# Altium footprint library SENSOR.PcbLib: 86 footprints (part 3 of 6)
Each footprint in its own frame and in the unit in brackets; x right, y up, seen from the top. Pads: shape width x height; smd on the part's side, far side on the other; paste and mask are expansions set on the pad; w line width, h text height; cw(c..) or ccw(c..) is an arc to the next point about the centre after c.
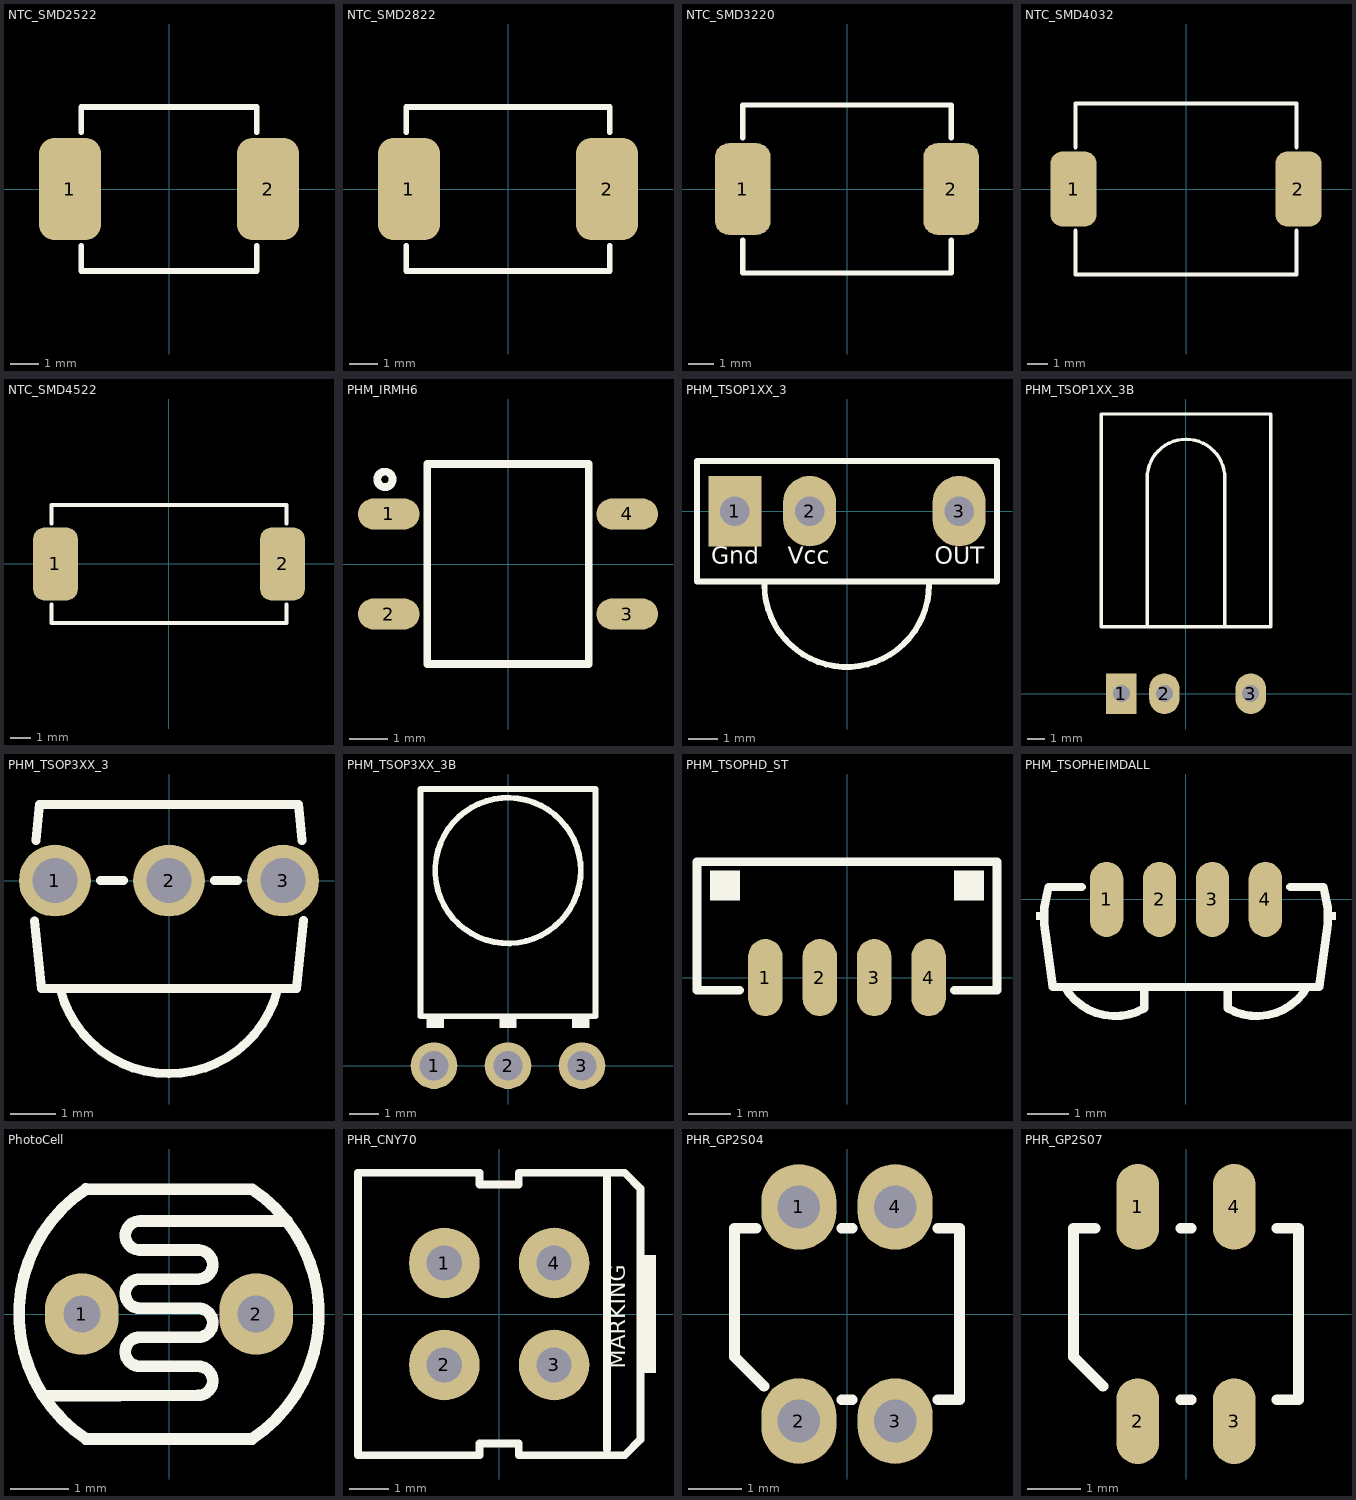
[diagram p2: the footprints below, top view; thin cyan lines are the x and y axes]

## NTC_SMD2522 [mm] "NTC, 6x5.6x2.4mm"
pads (2):
  rrect50% 2.2x3.6 smd paste-0.05 mask+0.075: 1(-3.5,0) 2(3.5,0)
Top Overlay:
  lines w0.2: -3.1,-2 -3.1,-2.9 3.1,-2.9 3.1,-2 ; -3.1,2 -3.1,2.9 3.1,2.9 3.1,2
3D body "NTC2522.step": height 2.5, standoff 0, extent -3.3,-2.8 3.3,2.8

## NTC_SMD2822 [mm] "NTC, 7x5.6x2.4mm"
pads (2):
  rrect50% 2.2x3.6 smd paste-0.05 mask+0.075: 1(-3.5,0) 2(3.5,0)
Top Overlay:
  lines w0.2: -3.6,-2 -3.6,-2.9 3.6,-2.9 3.6,-2 ; -3.6,2 -3.6,2.9 3.6,2.9 3.6,2
3D body "NTC2822.step": height 2.5, standoff 0, extent -3.9,-2.8 3.9,2.8

## NTC_SMD3220 [mm] "NTC, 8x6.4x4.0mm"
pads (2):
  rrect50% 2.2x3.6 smd paste-0.05 mask+0.075: 1(-4.1,0) 2(4.1,0)
Top Overlay:
  lines w0.2: -4.1,-2 -4.1,-3.3 4.1,-3.3 4.1,-2 ; -4.1,2 -4.1,3.3 4.1,3.3 4.1,2
3D body "NTC3220.step": height 4.1, standoff 0, extent -4.3,-3.2 4.3,3.2

## NTC_SMD4032 [mm] "NTC, 10.4x8x4.5mm"
pads (2):
  rrect50% 2.2x3.6 smd paste-0.05 mask+0.075: 1(-5.4,0) 2(5.4,0)
Top Overlay:
  lines w0.2: -5.3,-2 -5.3,-4.1 5.3,-4.1 5.3,-2 ; -5.3,2 -5.3,4.1 5.3,4.1 5.3,2
3D body "NTC4032.step": height 4.6, standoff 0, extent -5.5,-4 5.5,4

## NTC_SMD4522 [mm] "NTC, 11.4x6x2.4mm"
pads (2):
  rrect50% 2.2x3.6 smd paste-0.05 mask+0.075: 1(-5.6,0) 2(5.6,0)
Top Overlay:
  lines w0.2: -5.8,-2 -5.8,-2.9 5.8,-2.9 5.8,-2 ; -5.8,2 -5.8,2.9 5.8,2.9 5.8,2
3D body "NTC4522.step": height 2.5, standoff 0, extent -6,-3 6,3

## PHM_IRMH6 [mm] "PHOTO, Reflective Optical Sensor, IRM-H638"
pads (4):
  oval 1.6x0.8 smd: 1(-3.1,1.3) 2(-3.1,-1.3) 3(3.1,-1.3) 4(3.1,1.3)
Top Overlay:
  circle w0.2: c-3.2,2.2 r0.2
  lines w0.2: -2.1,-2.6 -2.1,2.6 2.1,2.6 2.1,-2.6 -2.1,-2.6
3D body: height 2.5, standoff 0, extent -2,-2.5 2,2.5
3D body: height 4, standoff 1, extent -1.498,-0.599 1.5,2.4

## PHM_TSOP1XX_3 [mm] "Photo Modules for PCM Remote Control Systems"
pads (3):
  rect 1.8x2.4 hole 1: 1(-3.81,0)
  oval 1.8x2.4 hole 1: 2(-1.27,0) 3(3.81,0)
Top Overlay:
  lines w0.2: -2.81,-2.5 ccw(c-0.01,-2.5) 2.79,-2.5 ; -5.1,-2.4 -5.1,1.7 5.1,1.7 5.1,-2.4 -5.1,-2.4
  text "OUT" at 2.99,-2 h1
  text "Vcc" at -2.01,-2 h1
  text "Gnd" at -4.61,-2 h1
3D body "TSOPxxxx.STEP": height 13.25, standoff -17.35, extent -5.01,-5.15 4.99,1.6

## PHM_TSOP1XX_3B [mm] "IR Sensor (TV Sensor)"
pads (3):
  rect 1.8x2.4 hole 1: 1(-3.81,0)
  oval 1.8x2.4 hole 1: 2(-1.27,0) 3(3.81,0)
Top Overlay:
  lines w0.2: -2.286,3.937 -2.286,12.7 cw(c0,12.7) 2.286,12.7 2.286,3.937 ; -5,3.937 -5,16.471 5,16.471 5,3.937 -5,3.937
3D body "TSOP1238_2009.STEP": height 5.8, standoff -2.15, extent -5,-0.229 5,16.471

## PHM_TSOP3XX_3 [mm] "HS0038B, SFH5110, TSOP322.., TSOP324.., TSOP344.., TSOP348.."
height 6.95
pads (3):
  round 1.6 / inner round 1.6 / far side oval 1.6x2.4 hole 1: 1(-2.54,0) 2(0,0) 3(2.54,0)
Top Overlay:
  lines w0.2: -2.99,-0.899 -2.84,-2.4 2.84,-2.4 2.991,-0.889 ; -2.96,0.896 -2.88,1.7 2.88,1.7 2.96,0.896 ; -2.415,-2.447 ccw(c0,-1.8) 2.415,-2.447 ; -1.524,0 -1.016,0 ; 1.016,0 1.524,0
3D body "User Library-tsop4836.step": height 10.51, standoff -20, extent -3,-4.2 3,1.6

## PHM_TSOP3XX_3B [mm] "TSOP3XX_BENDED"
height 10
pads (3):
  round 1.6 / inner round 1.6 / far side oval 1.6x2.4 hole 1: 1(-2.54,0) 2(0,0) 3(2.54,0)
Top Overlay:
  circle w0.2: c0,6.7 r2.5
  rectangle: -2.8,1.3 -2.2,1.7
  rectangle: -0.3,1.3 0.3,1.7
  region: 2.8,1.7 2.2,1.7 2.2,1.3 2.8,1.3
  lines w0.2: -3,1.7 -3,9.5 3,9.5 3,1.7 -3,1.7
3D body "SFH5110.STEP": height 6.95, standoff -3.6, extent -2.9,-0.2 2.9,9.4

## PHM_TSOPHD_ST [mm] "HEIMDALL, TSOP952-4, TSOP753-4, TSOP773-4 ... straight"
height 3
pads (4):
  oval 0.8x1.8 smd paste-0.1: 1(-1.905,0) 2(-0.635,0) 3(0.635,0) 4(1.905,0)
Top Overlay:
  region: 3.2,2.5 2.5,2.5 2.5,1.8 3.2,1.8
  rectangle: -3.2,1.8 -2.5,2.5
  lines w0.2: -2.5,-0.3 -3.5,-0.3 -3.5,2.7 3.5,2.7 3.5,-0.3 2.5,-0.3
3D body "Heimdall.stp": height 3.16, standoff -0.04, extent -3.45,-0.438 3.45,2.662

## PHM_TSOPHEIMDALL [mm] "HEIMDALL, TSOP952-4, TSOP753-4, TSOP773-4 ... RightAngle"
height 3
pads (4):
  oval 0.8x1.8 smd paste-0.1: 1(-1.905,0) 2(-0.635,0) 3(0.635,0) 4(1.905,0)
Top Overlay:
  region: -3.4,-0.3 -3.6,-0.3 -3.6,-0.5 -3.4,-0.5
  rectangle: 3.4,-0.5 3.6,-0.3
  lines w0.2: -2.909,-2.105 ccw(c-1.7,-1.4) -0.995,-2.609 ; -2.5,0.3 -3.3,0.3 -3.4,-0.2 -3.4,-0.6 -3.2,-2.1 3.2,-2.1 3.4,-0.6 3.4,-0.2 3.3,0.3 2.5,0.3 ; -1,-2.609 -1,-2.1 ; 0.995,-2.609 ccw(c1.7,-1.4) 2.909,-2.105 ; 1,-2.609 1,-2.1
3D body "Heimdall.stp": height 3.13, standoff 0.03, extent -3.45,-2.7 3.45,0.5

## PhotoCell [mm]
pads (2):
  oval 1.27x1.397 hole 0.635: 1(-1.5,0) 2(1.5,0)
Top Overlay:
  lines w0.2: -2.16,-1.41 0.5,-1.4 ccw(c0.502,-1.15) 0.501,-0.9 -0.5,-0.9 cw(c-0.502,-0.65) -0.5,-0.4 0.5,-0.4 ccw(c0.502,-0.15) 0.501,0.1 -0.5,0.1 cw(c-0.502,0.35) -0.5,0.6 0.5,0.6 ccw(c0.502,0.85) 0.501,1.1 -0.499,1.1 ; -1.43,-2.15 1.429,-2.15 ; -1.43,2.15 1.429,2.148 cw(c0,0) 1.428,-2.149 ; -1.429,-2.148 cw(c0,0) -1.429,2.148 ; -0.5,1.1 cw(c-0.501,1.35) -0.499,1.6 2.03,1.6
3D body "LDR.STEP": height 2.44, standoff -2.3, extent -2.605,-2.159 2.605,2.141

## PHR_CNY70 [mm] "PHOTO, Reflective Optical Sensor, CNY70"
pads (4):
  round 1.8 hole 0.9: 1(-1.4,1.3) 2(-1.4,-1.3) 3(1.4,-1.3) 4(1.4,1.3)
Top Overlay:
  rectangle: 3.6,-1.5 4,1.5
  lines w0.2: 2.75,-3.45 2.75,3.55 ; -3.6,-3.6 -3.6,3.6 -0.5,3.6 -0.5,3.3 0.5,3.3 0.5,3.6 3.2,3.6 3.6,3.2 3.6,-3.2 3.2,-3.6 0.5,-3.6 0.5,-3.3 -0.5,-3.3 -0.5,-3.6 -3.6,-3.6
  text "MARKING" at 3.35,-1.4 h0.7
3D body "CNY70.step": height 6, standoff -5.75, extent -3.5,-3.5 3.5,3.5

## PHR_GP2S04 [mm] "PHOTO, Reflective Optical Sensor, GP2S04"
pads (4):
  oval 1.4x1.6 hole 0.8: 1(-0.9,2) 2(-0.9,-2) 3(0.9,-2) 4(0.9,2)
Top Overlay:
  lines w0.2: -1.7,1.6 -2.1,1.6 -2.1,-0.8 -1.55,-1.35 ; -0.1,-1.6 0.1,-1.6 ; -0.1,1.6 0.1,1.6 ; 1.7,-1.6 2.1,-1.6 2.1,1.6 1.7,1.6
3D body: height 1.7, standoff 0, extent -2,-1.5 2,1.5
3D body: height 1.3, standoff 0, extent 0.2,-1.2 1.7,1.2
3D body: height 1.65, standoff 1.35, extent 0.2,-1.2 1.7,1.2
3D body: height 1.7, standoff 0, extent -0.2,-1.2 0.2,1.2
3D body: height 1.65, standoff 1.35, extent -1.7,-1.2 -0.2,1.2
3D body: height 1.3, standoff 0, extent -1.7,-1.2 -0.2,1.2

## PHR_GP2S07 [mm] "PHOTO, Reflective Optical Sensor, GP2S07"
pads (4):
  oval 0.8x1.6 smd: 1(-0.9,2) 2(-0.9,-2) 3(0.9,-2) 4(0.9,2)
Top Overlay:
  lines w0.2: -1.7,1.6 -2.1,1.6 -2.1,-0.8 -1.55,-1.35 ; -0.1,-1.6 0.1,-1.6 ; -0.1,1.6 0.1,1.6 ; 1.7,-1.6 2.1,-1.6 2.1,1.6 1.7,1.6
3D body: height 1.3, standoff 0, extent -1.7,-1.2 -0.2,1.2
3D body: height 1.65, standoff 1.35, extent -1.7,-1.2 -0.2,1.2
3D body: height 1.7, standoff 0, extent -0.2,-1.2 0.2,1.2
3D body: height 1.65, standoff 1.35, extent 0.2,-1.2 1.7,1.2
3D body: height 1.3, standoff 0, extent 0.2,-1.2 1.7,1.2
3D body: height 1.7, standoff 0, extent -2,-1.5 2,1.5